# Altium integrated library XT30UPB-M.IntLib: 1 symbol
Pins are listed as number, name and electrical type; pins without a type are passive.

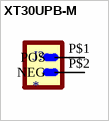
[diagram p0: symbol XT30UPB-M]

## XT30UPB-M
designator J?
Socket; DC supply; XT30; male; PIN: 2; on PCBs; THT; yellow; 15A; 500V; MP: XT30UPB-M; MF: amass; Value: *; SnapEDA_Link: https://www.snapeda.com/parts/XT30UPB-M/AMASS/view-part/?ref=snap; Price: None; Package: None; Check_prices: https://www.snapeda.com/parts/XT30UPB-M/AMASS/view-part/?ref=eda; Availability: Not in stock
footprint XT30UPB-M
pins: P$1 POS, P$2 NEG